# Altium schematic symbol library WCAP-ATG8_10V.SchLib: 8 symbols
Pins are listed as number, name and electrical type; pins without a type are passive.

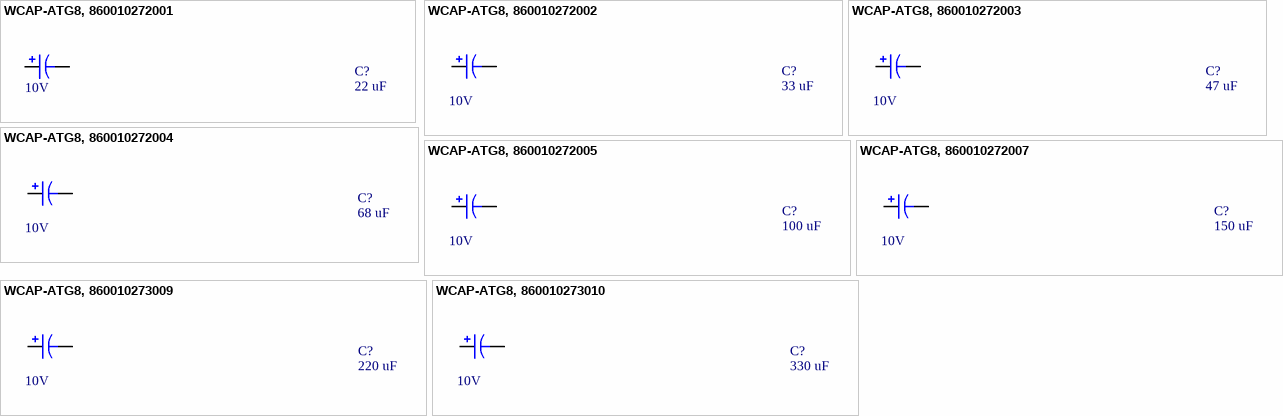
[diagram p0: symbols WCAP-ATG8, 860010272001 to WCAP-ATG8, 860010273010]

## WCAP-ATG8, 860010272001
designator C?, comment 22 uF  RatedVoltage: 10V
CAP Alu 22 UF 20% 10 V; Manufacturer: Wurth Elektronik; Manufacturer Part Number: 860010272001; PublishedDate: July 2016; ComponentLink1Description: Manufacturer; ComponentLink1URL: http://www.we-online.de; ComponentLink2Description: Datasheet; ComponentLink2URL: http://katalog.we-online.de/pbs/datasheet/860010272001.pdf; Value: 22 uF; Size: 5mmx11mm
footprint WCAP-ATG8_5x11x2x0.5
pins: 1, 2

## WCAP-ATG8, 860010272002
designator C?, comment 33 uF  RatedVoltage: 10V
CAP Alu 33 UF 20% 10 V; Manufacturer: Wurth Elektronik; Manufacturer Part Number: 860010272002; PublishedDate: July 2016; ComponentLink1Description: Manufacturer; ComponentLink1URL: http://www.we-online.de; ComponentLink2Description: Datasheet; ComponentLink2URL: http://katalog.we-online.de/pbs/datasheet/860010272002.pdf; Value: 33 uF; Size: 5mmx11mm
footprint WCAP-ATG8_5x11x2x0.5
pins: 1, 2

## WCAP-ATG8, 860010272003
designator C?, comment 47 uF  RatedVoltage: 10V
CAP Alu 47 UF 20% 10 V; Manufacturer: Wurth Elektronik; Manufacturer Part Number: 860010272003; PublishedDate: July 2016; ComponentLink1Description: Manufacturer; ComponentLink1URL: http://www.we-online.de; ComponentLink2Description: Datasheet; ComponentLink2URL: http://katalog.we-online.de/pbs/datasheet/860010272003.pdf; Value: 47 uF; Size: 5mmx11mm
footprint WCAP-ATG8_5x11x2x0.5
pins: 1, 2

## WCAP-ATG8, 860010272004
designator C?, comment 68 uF  RatedVoltage: 10V
CAP Alu 68 UF 20% 10 V; Manufacturer: Wurth Elektronik; Manufacturer Part Number: 860010272004; PublishedDate: July 2016; ComponentLink1Description: Manufacturer; ComponentLink1URL: http://www.we-online.de; ComponentLink2Description: Datasheet; ComponentLink2URL: http://katalog.we-online.de/pbs/datasheet/860010272004.pdf; Value: 68 uF; Size: 5mmx11mm
footprint WCAP-ATG8_5x11x2x0.5
pins: 1, 2

## WCAP-ATG8, 860010272005
designator C?, comment 100 uF  RatedVoltage: 10V
CAP Alu 100 UF 20% 10 V; Manufacturer: Wurth Elektronik; Manufacturer Part Number: 860010272005; PublishedDate: July 2016; ComponentLink1Description: Manufacturer; ComponentLink1URL: http://www.we-online.de; ComponentLink2Description: Datasheet; ComponentLink2URL: http://katalog.we-online.de/pbs/datasheet/860010272005.pdf; Value: 100 uF; Size: 5mmx11mm
footprint WCAP-ATG8_5x11x2x0.5
pins: 1, 2

## WCAP-ATG8, 860010272007
designator C?, comment 150 uF  RatedVoltage: 10V
CAP Alu 150 UF 20% 10 V; Manufacturer: Wurth Elektronik; Manufacturer Part Number: 860010272007; PublishedDate: July 2016; ComponentLink1Description: Manufacturer; ComponentLink1URL: http://www.we-online.de; ComponentLink2Description: Datasheet; ComponentLink2URL: http://katalog.we-online.de/pbs/datasheet/860010272007.pdf; Value: 150 uF; Size: 5mmx11mm
footprint WCAP-ATG8_5x11x2x0.5
pins: 1, 2

## WCAP-ATG8, 860010273009
designator C?, comment 220 uF  RatedVoltage: 10V
CAP Alu 220 UF 20% 10 V; Manufacturer: Wurth Elektronik; Manufacturer Part Number: 860010273009; PublishedDate: July 2016; ComponentLink1Description: Manufacturer; ComponentLink1URL: http://www.we-online.de; ComponentLink2Description: Datasheet; ComponentLink2URL: http://katalog.we-online.de/pbs/datasheet/860010273009.pdf; Value: 220 uF; Size: 6.3mmx11mm
footprint WCAP-ATG8_6.3x11x2.5x0.5
pins: 1, 2

## WCAP-ATG8, 860010273010
designator C?, comment 330 uF  RatedVoltage: 10V
CAP Alu 330 UF 20% 10 V; Manufacturer: Wurth Elektronik; Manufacturer Part Number: 860010273010; PublishedDate: July 2016; ComponentLink1Description: Manufacturer; ComponentLink1URL: http://www.we-online.de; ComponentLink2Description: Datasheet; ComponentLink2URL: http://katalog.we-online.de/pbs/datasheet/860010273010.pdf; Value: 330 uF; Size: 6.3mmx11mm
footprint WCAP-ATG8_6.3x11x2.5x0.5
pins: 1, 2